# Altium footprint library SPDT.PcbLib: 1 footprints
Each footprint in its own frame and in the unit in brackets; x right, y up, seen from the top. Pads: shape width x height; smd on the part's side, far side on the other; paste and mask are expansions set on the pad; w line width, h text height; cw(c..) or ccw(c..) is an arc to the next point about the centre after c.
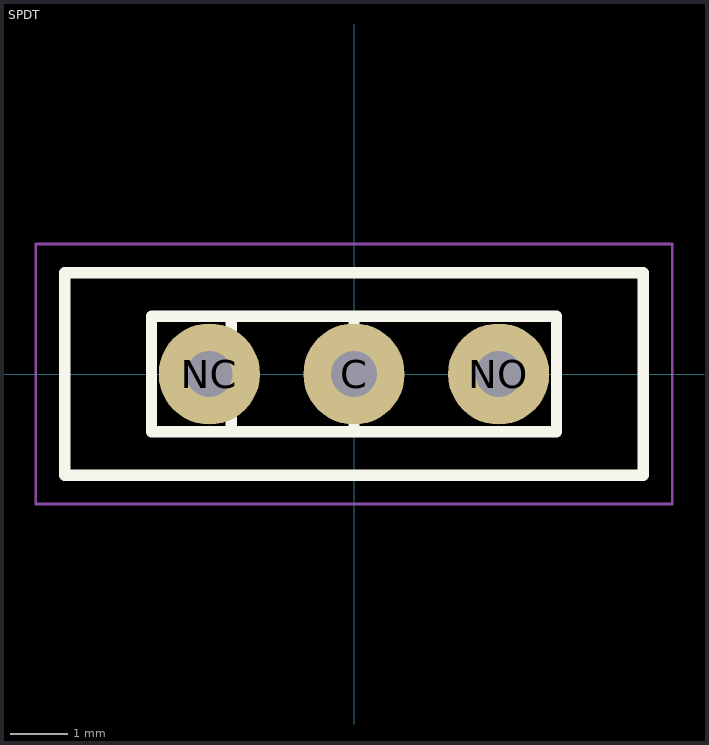
[diagram p0: the footprint, top view; thin cyan lines are the x and y axes]

## SPDT [mil] "Single Pole Dual Throw"
height 173.23
pads (3):
  round 70 hole 32: C(0,0) NC(-100,0) NO(100,0)
Top Overlay:
  lines w7.87: -85,-40 -85,40 ; 0,-40 0,40 ; -200,-70 200,-70 200,70 -200,70 -200,-70 ; -140,-40 140,-40 140,40 -140,40 -140,-40
Mechanical 15:
  lines w1.97: -220,-90 -220,90 220,90 220,-90 -220,-90
3D body: height 173.23, standoff 0, extent -204,-74 204,74
3D body: height 173.23, standoff 0, extent -139,-39 139,39
3D body: height 255.91, standoff 0, extent -84.98,-39.98 -0.02,39.98